# EAGLE library part JP4Q (library jumper)
JUMPER
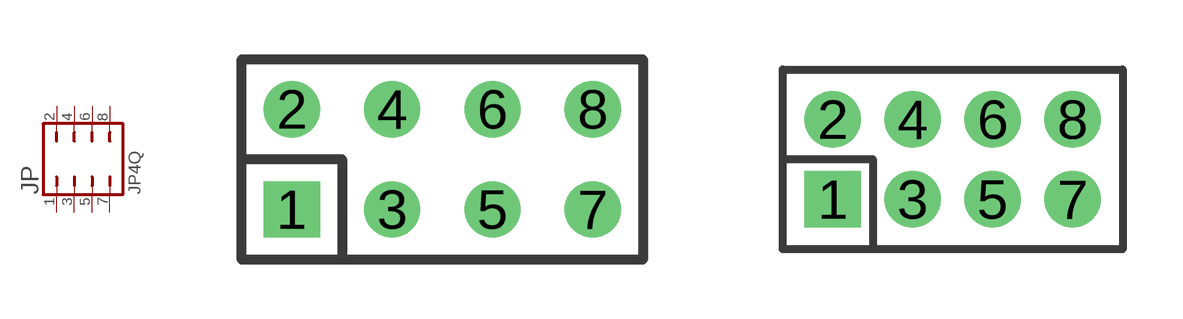
[diagram p9: symbol with the pads of JP4Q; footprints JP4Q, JP4QM]

Designator prefix JP

## JP4Q  [JP4Q]
1  1  pas
2  2  pas
3  3  pas
4  4  pas
5  5  pas
6  6  pas
7  7  pas
8  8  pas

## JP4QM  [JP4QM]
Pads as for JP4Q

## Footprint JP4Q (pad centres in mm)
JUMPER - 0.1" Pitch
drill 0.914 square: 1 -3.81,-1.27
drill 0.914: 2 -3.81,1.27; 3 -1.27,-1.27; 4 -1.27,1.27; 5 1.27,-1.27; 6 1.27,1.27; 7 3.81,-1.27; 8 3.81,1.27

## Footprint JP4QM (pad centres in mm)
JUMPER - 2.00mm (.079") Pitch
drill 0.914 square: 1 -3,-1
drill 0.914: 2 -3,1; 3 -1,-1; 4 -1,1; 5 1,-1; 6 1,1; 7 3,-1; 8 3,1